# Altium schematic symbol library Schlib1.SchLib: 1 symbol
Pins are listed as number, name and electrical type; pins without a type are passive.

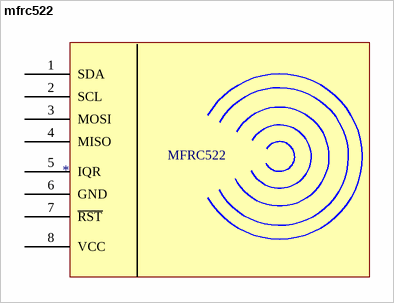
[diagram p0: symbol mfrc522]

## mfrc522
designator ?
footprint MFRC522
pins: 1 SDA, 2 SCL, 3 MOSI, 4 MISO, 5 IQR, 6 GND, 7 ~{RST}, 8 VCC
text: MFRC522